# Altium footprint library Miscellaneous Devices LC.PcbLib: 559 footprints (part 11 of 35)
Each footprint in its own frame and in the unit in brackets; x right, y up, seen from the top. Pads: shape width x height; smd on the part's side, far side on the other; paste and mask are expansions set on the pad; w line width, h text height; cw(c..) or ccw(c..) is an arc to the next point about the centre after c.
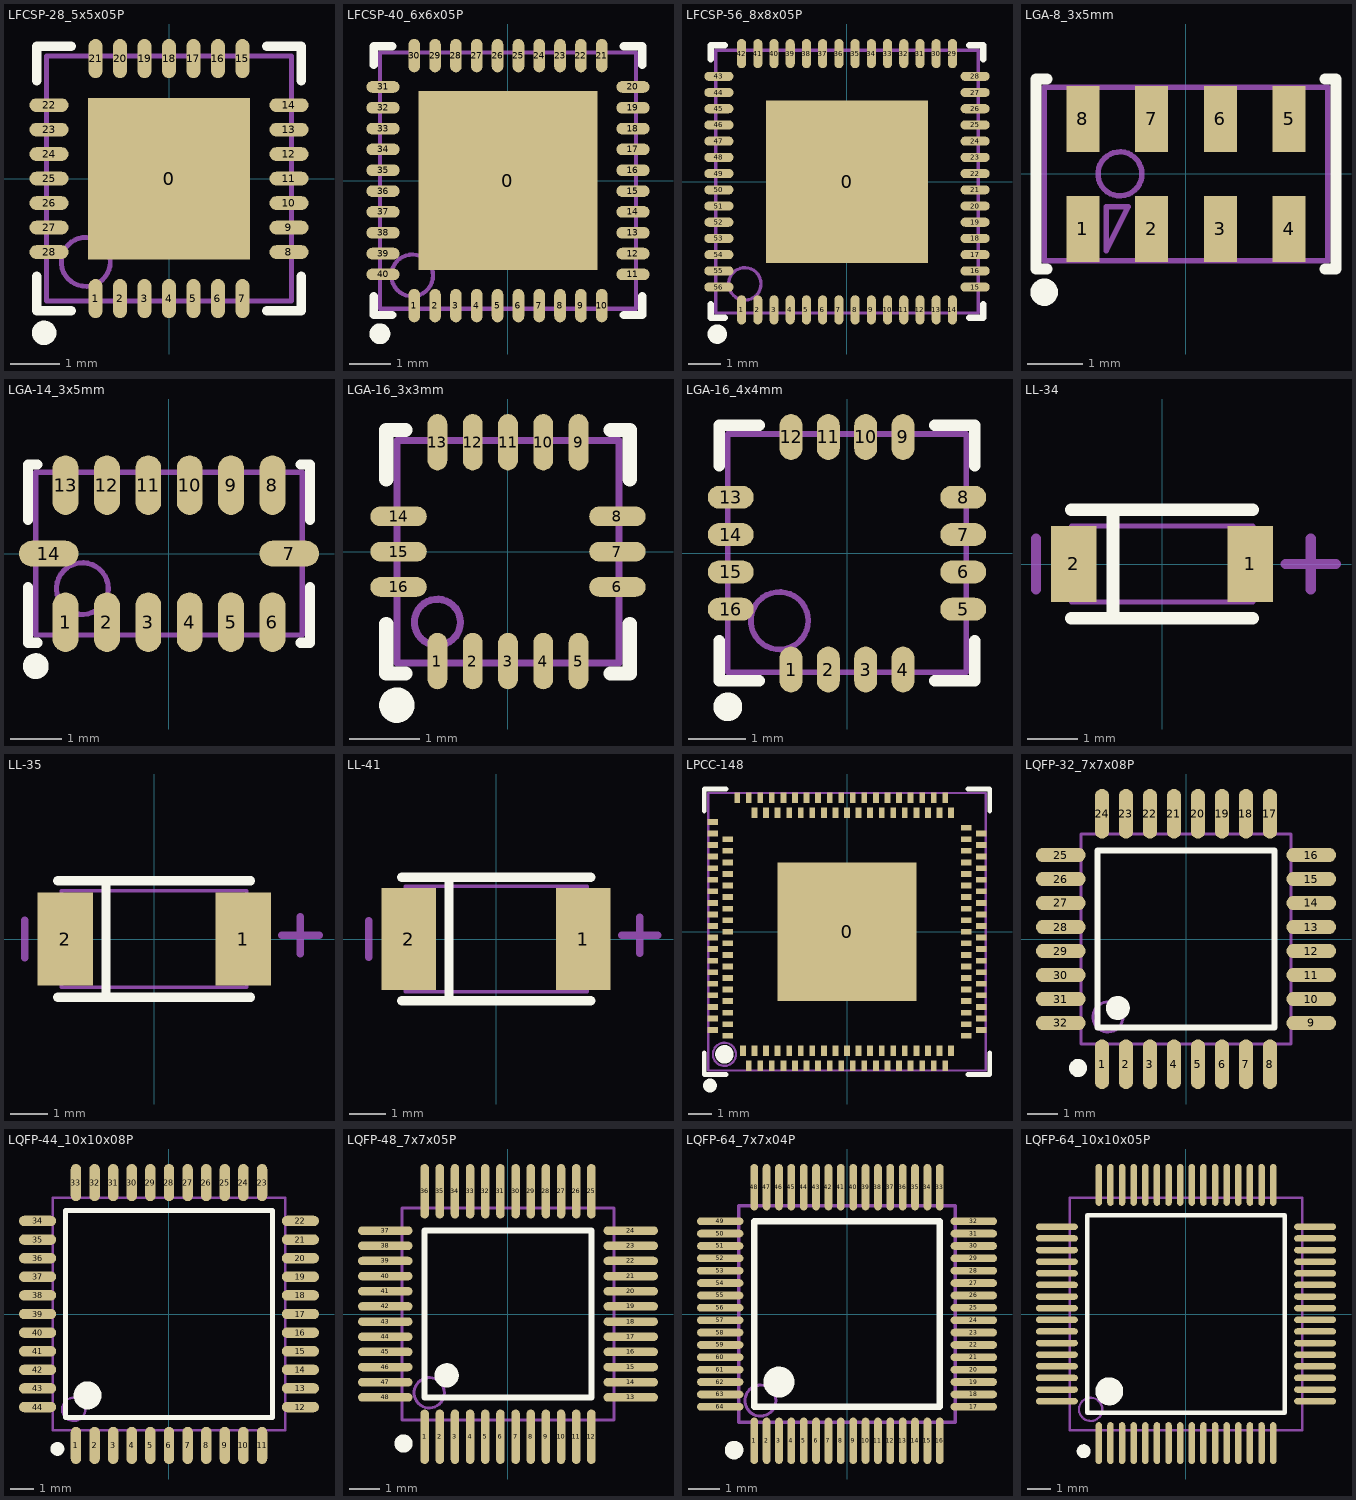
[diagram p10: the footprints below, top view; thin cyan lines are the x and y axes]

## LFCSP-28_5x5x05P [mm]
pads (29):
  rect 3.3x3.3 smd mask+0.051: 0(0,0)
  oval 0.28x0.8 smd mask+0.051: 1(-1.5,-2.45) 2(-1,-2.45) 3(-0.5,-2.45) 4(0,-2.45) 5(0.5,-2.45) 6(1,-2.45) 7(1.5,-2.45) 15(1.5,2.45) 16(1,2.45) 17(0.5,2.45) 18(0,2.45) 19(-0.5,2.45) 20(-1,2.45) 21(-1.5,2.45)
  oval 0.8x0.28 smd mask+0.051: 8(2.45,-1.5) 9(2.45,-1) 10(2.45,-0.5) 11(2.45,0) 12(2.45,0.5) 13(2.45,1) 14(2.45,1.5) 22(-2.45,1.5) 23(-2.45,1) 24(-2.45,0.5) 25(-2.45,0) 26(-2.45,-0.5) 27(-2.45,-1) 28(-2.45,-1.5)
Top Overlay:
  circle w0.25: c-2.55,-3.15 r0.125
  lines w0.2: -2.7,-2 -2.7,-2.7 -2,-2.7 ; -2.7,2 -2.7,2.7 -2,2.7 ; 2,-2.7 2.7,-2.7 2.7,-2 ; 2,2.7 2.7,2.7 2.7,2
Mechanical 13:
  circle w0.1: c-1.7,-1.7 r0.5
  lines w0.1: -2.5,-2.5 2.5,-2.5 2.5,2.5 -2.5,2.5 -2.5,-2.5

## LFCSP-40_6x6x05P [mm]
pads (41):
  rect 4.3x4.3 smd mask+0.051: 0(0,0)
  oval 0.28x0.8 smd mask+0.051: 1(-2.25,-3) 2(-1.75,-3) 3(-1.25,-3) 4(-0.75,-3) 5(-0.25,-3) 6(0.25,-3) 7(0.75,-3) 8(1.25,-3) 9(1.75,-3) 10(2.25,-3) 21(2.25,3) 22(1.75,3) 23(1.25,3) 24(0.75,3) 25(0.25,3) 26(-0.25,3) 27(-0.75,3) 28(-1.25,3) 29(-1.75,3) 30(-2.25,3)
  oval 0.8x0.28 smd mask+0.051: 11(3,-2.25) 12(3,-1.75) 13(3,-1.25) 14(3,-0.75) 15(3,-0.25) 16(3,0.25) 17(3,0.75) 18(3,1.25) 19(3,1.75) 20(3,2.25) 31(-3,2.25) 32(-3,1.75) 33(-3,1.25) 34(-3,0.75) 35(-3,0.25) 36(-3,-0.25) 37(-3,-0.75) 38(-3,-1.25) 39(-3,-1.75) 40(-3,-2.25)
Top Overlay:
  circle w0.25: c-3.075,-3.675 r0.125
  lines w0.2: -3.225,-2.775 -3.225,-3.225 -2.775,-3.225 ; -3.225,2.775 -3.225,3.225 -2.775,3.225 ; 2.775,-3.225 3.225,-3.225 3.225,-2.775 ; 2.775,3.225 3.225,3.225 3.225,2.775
Mechanical 13:
  circle w0.1: c-2.3,-2.275 r0.5
  lines w0.1: -3.075,-3.075 -3.075,3.075 3.075,3.075 3.075,-3.075 -3.075,-3.075

## LFCSP-56_8x8x05P [mm]
pads (57):
  rect 5x5 smd mask+0.051: 0(0,0)
  oval 0.28x0.9 smd mask+0.051: 1(-3.25,-3.95) 2(-2.75,-3.95) 3(-2.25,-3.95) 4(-1.75,-3.95) 5(-1.25,-3.95) 6(-0.75,-3.95) 7(-0.25,-3.95) 8(0.25,-3.95) 9(0.75,-3.95) 10(1.25,-3.95) 11(1.75,-3.95) 12(2.25,-3.95) 13(2.75,-3.95) 14(3.25,-3.95) 29(3.25,3.95) 30(2.75,3.95) 31(2.25,3.95) 32(1.75,3.95) 33(1.25,3.95) 34(0.75,3.95) 35(0.25,3.95) 36(-0.25,3.95) 37(-0.75,3.95) 38(-1.25,3.95) 39(-1.75,3.95) 40(-2.25,3.95) 41(-2.75,3.95) 42(-3.25,3.95)
  oval 0.9x0.28 smd mask+0.051: 15(3.95,-3.25) 16(3.95,-2.75) 17(3.95,-2.25) 18(3.95,-1.75) 19(3.95,-1.25) 20(3.95,-0.75) 21(3.95,-0.25) 22(3.95,0.25) 23(3.95,0.75) 24(3.95,1.25) 25(3.95,1.75) 26(3.95,2.25) 27(3.95,2.75) 28(3.95,3.25) 43(-3.95,3.25) 44(-3.95,2.75) 45(-3.95,2.25) 46(-3.95,1.75) 47(-3.95,1.25) 48(-3.95,0.75) 49(-3.95,0.25) 50(-3.95,-0.25) 51(-3.95,-0.75) 52(-3.95,-1.25) 53(-3.95,-1.75) 54(-3.95,-2.25) 55(-3.95,-2.75) 56(-3.95,-3.25)
Top Overlay:
  circle w0.3: c-4,-4.7 r0.15
  lines w0.2: -4.2,-3.775 -4.2,-4.2 -3.775,-4.2 ; -4.2,3.775 -4.2,4.2 -3.775,4.2 ; 3.775,-4.2 4.2,-4.2 4.2,-3.775 ; 3.775,4.2 4.2,4.2 4.2,3.775
Mechanical 13:
  circle w0.1: c-3.15,-3.15 r0.5
  lines w0.1: -4.05,-4.05 4.05,-4.05 4.05,4.05 -4.05,4.05 -4.05,-4.05

## LGA-8_3x5mm [mm]
pads (8):
  rect 0.6x1.2 smd: 1(-1.875,-1) 2(-0.625,-1) 3(0.625,-1) 4(1.875,-1) 5(1.875,1) 6(0.625,1) 7(-0.625,1) 8(-1.875,1)
Top Overlay:
  circle w0.25: c-2.575,-2.15 r0.125
  lines w0.2: -2.525,-1.725 -2.725,-1.725 -2.725,1.725 -2.525,1.725 ; 2.525,-1.725 2.725,-1.725 2.725,1.725 2.525,1.725
Mechanical 13:
  circle w0.1: c-1.2,0 r0.4
  lines w0.1: -2.575,-1.575 2.575,-1.575 2.575,1.575 -2.575,1.575 -2.575,-1.575 ; -1.45,-1.4 -1.45,-0.6 -1.05,-0.6 -1.45,-1.4

## LGA-14_3x5mm [mm]
pads (14):
  oval 0.5x1.15 smd mask+0.051: 1(-2,-1.325) 2(-1.2,-1.325) 3(-0.4,-1.325) 4(0.4,-1.325) 5(1.2,-1.325) 6(2,-1.325) 8(2,1.325) 9(1.2,1.325) 10(0.4,1.325) 11(-0.4,1.325) 12(-1.2,1.325) 13(-2,1.325)
  oval 1.15x0.5 smd mask+0.051: 7(2.325,0) 14(-2.325,0)
Top Overlay:
  circle w0.25: c-2.575,-2.175 r0.125
  lines w0.2: -2.725,-0.65 -2.725,-1.725 -2.55,-1.725 ; -2.725,0.65 -2.725,1.725 -2.55,1.725 ; 2.55,-1.725 2.725,-1.725 2.725,-0.65 ; 2.55,1.725 2.725,1.725 2.725,0.65
Mechanical 13:
  circle w0.1: c-1.675,-0.675 r0.5
  lines w0.1: -2.575,-1.575 -2.575,1.575 2.575,1.575 2.575,-1.575 -2.575,-1.575

## LGA-16_3x3mm [mm]
pads (16):
  oval 0.28x0.8 smd mask+0.051: 1(-1,-1.55) 2(-0.5,-1.55) 3(0,-1.55) 4(0.5,-1.55) 5(1,-1.55) 9(1,1.55) 10(0.5,1.55) 11(0,1.55) 12(-0.5,1.55) 13(-1,1.55)
  oval 0.8x0.28 smd mask+0.051: 6(1.55,-0.5) 7(1.55,0) 8(1.55,0.5) 14(-1.55,0.5) 15(-1.55,0) 16(-1.55,-0.5)
Top Overlay:
  circle w0.25: c-1.575,-2.175 r0.125
  lines w0.2: -1.725,-1.025 -1.725,-1.725 -1.45,-1.725 ; -1.725,1.025 -1.725,1.725 -1.45,1.725 ; 1.45,-1.725 1.725,-1.725 1.725,-1.025 ; 1.45,1.725 1.725,1.725 1.725,1.025
Mechanical 13:
  circle w0.1: c-1,-1 r0.326
  lines w0.1: -1.575,-1.575 1.575,-1.575 1.575,1.575 -1.575,1.575 -1.575,-1.575

## LGA-16_4x4mm [mm]
pads (16):
  oval 0.4x0.8 smd mask+0.051: 1(-0.975,-2.025) 2(-0.325,-2.025) 3(0.325,-2.025) 4(0.975,-2.025) 9(0.975,2.025) 10(0.325,2.025) 11(-0.325,2.025) 12(-0.975,2.025)
  oval 0.8x0.4 smd mask+0.051: 5(2.025,-0.975) 6(2.025,-0.325) 7(2.025,0.325) 8(2.025,0.975) 13(-2.025,0.975) 14(-2.025,0.325) 15(-2.025,-0.325) 16(-2.025,-0.975)
Top Overlay:
  circle w0.25: c-2.075,-2.675 r0.125
  lines w0.2: -2.225,-1.525 -2.225,-2.225 -1.525,-2.225 ; -2.225,1.525 -2.225,2.225 -1.525,2.225 ; 1.525,-2.225 2.225,-2.225 2.225,-1.525 ; 1.525,2.225 2.225,2.225 2.225,1.525
Mechanical 13:
  circle w0.1: c-1.175,-1.175 r0.5
  lines w0.1: -2.075,-2.075 -2.075,2.075 2.075,2.075 2.075,-2.075 -2.075,-2.075

## LL-34 [mm]
pads (2):
  rect 0.9x1.5 smd: 1(1.75,0) 2(-1.75,0)
Top Overlay:
  lines w0.254: -1.8,-1.075 1.8,-1.075 ; -1.8,1.075 1.8,1.075 ; -0.975,-1.075 -0.975,1.075
Mechanical 13:
  lines w0.1: -1.8,-0.75 1.8,-0.75 1.8,0.75 -1.8,0.75 -1.8,-0.75
Mechanical 15:
  lines w0.203: -2.5,-0.5 -2.5,0.5 ; 2.45,0 3.45,0 ; 2.95,-0.5 2.95,0.5

## LL-35 [mm]
pads (2):
  rect 1.5x2.5 smd: 1(2.4,0) 2(-2.4,0)
Top Overlay:
  lines w0.254: -2.6,-1.575 2.6,-1.575 ; -2.6,1.575 2.6,1.575 ; -1.3,-1.575 -1.3,1.575
Mechanical 13:
  lines w0.1: -2.5,-1.3 -2.5,1.3 2.5,1.3 2.5,-1.3 -2.5,-1.3
Mechanical 15:
  lines w0.203: -3.5,-0.5 -3.5,0.5 ; 3.45,0.1 4.45,0.1 ; 3.95,-0.4 3.95,0.6

## LL-41 [mm]
pads (2):
  rect 1.5x2.8 smd: 1(2.4,0) 2(-2.4,0)
Top Overlay:
  lines w0.254: -2.6,-1.7 2.6,-1.7 ; -2.6,1.7 2.6,1.7 ; -1.3,-1.7 -1.3,1.7
Mechanical 13:
  lines w0.1: -2.5,-1.45 -2.5,1.45 2.5,1.45 2.5,-1.45 -2.5,-1.45
Mechanical 15:
  lines w0.203: -3.5,-0.5 -3.5,0.5 ; 3.45,0.1 4.45,0.1 ; 3.95,-0.4 3.95,0.6

## LPCC-148 [mm]
pads (149):
  rect 6x6 smd: 0(0,0)
  rect 0.25x0.45 smd mask+0.051: A3(-4.25,-5.8) A4(-3.75,-5.8) A5(-3.25,-5.8) A6(-2.75,-5.8) A7(-2.25,-5.8) A8(-1.75,-5.8) A9(-1.25,-5.8) A10(-0.75,-5.8) A11(-0.25,-5.8) A12(0.25,-5.8) A13(0.75,-5.8) A14(1.25,-5.8) A15(1.75,-5.8) A16(2.25,-5.8) A17(2.75,-5.8) A18(3.25,-5.8) A19(3.75,-5.8) A20(4.25,-5.8) A47(4.25,5.8) A48(3.75,5.8) A49(3.25,5.8) A50(2.75,5.8) A51(2.25,5.8) A52(1.75,5.8) A53(1.25,5.8) A54(0.75,5.8) A55(0.25,5.8) A56(-0.25,5.8) A57(-0.75,5.8) A58(-1.25,5.8) A59(-1.75,5.8) A60(-2.25,5.8) A61(-2.75,5.8) A62(-3.25,5.8) A63(-3.75,5.8) A64(-4.25,5.8) A65(-4.75,5.8) B1(-4.5,-5.15) B2(-4,-5.15) B3(-3.5,-5.15) B4(-3,-5.15) B5(-2.5,-5.15) B6(-2,-5.15) B7(-1.5,-5.15) B8(-1,-5.15) B9(-0.5,-5.15) B10(0,-5.15) B11(0.5,-5.15) B12(1,-5.15) B13(1.5,-5.15) B14(2,-5.15) B15(2.5,-5.15) B16(3,-5.15) B17(3.5,-5.15) B18(4,-5.15) B19(4.5,-5.15) B39(4.5,5.15) B40(4,5.15) B41(3.5,5.15) B42(3,5.15) B43(2.5,5.15) B44(2,5.15) B45(1.5,5.15) B46(1,5.15) B47(0.5,5.15) B48(0,5.15) B49(-0.5,5.15) B50(-1,5.15) B51(-1.5,5.15) B52(-2,5.15) B53(-2.5,5.15) B54(-3,5.15) B55(-3.5,5.15) B56(-4,5.15)
  rect 0.45x0.25 smd mask+0.051: A25(5.8,-4.25) A26(5.8,-3.75) A27(5.8,-3.25) A28(5.8,-2.75) A29(5.8,-2.25) A30(5.8,-1.75) A31(5.8,-1.25) A32(5.8,-0.75) A33(5.8,-0.25) A34(5.8,0.25) A35(5.8,0.75) A36(5.8,1.25) A37(5.8,1.75) A38(5.8,2.25) A39(5.8,2.75) A40(5.8,3.25) A41(5.8,3.75) A42(5.8,4.25) A68(-5.8,4.75) A69(-5.8,4.25) A70(-5.8,3.75) A71(-5.8,3.25) A72(-5.8,2.75) A73(-5.8,2.25) A74(-5.8,1.75) A75(-5.8,1.25) A76(-5.8,0.75) A77(-5.8,0.25) A78(-5.8,-0.25) A79(-5.8,-0.75) A80(-5.8,-1.25) A81(-5.8,-1.75) A82(-5.8,-2.25) A83(-5.8,-2.75) A84(-5.8,-3.25) A85(-5.8,-3.75) A86(-5.8,-4.25) B20(5.15,-4.5) B21(5.15,-4) B22(5.15,-3.5) B23(5.15,-3) B24(5.15,-2.5) B25(5.15,-2) B26(5.15,-1.5) B27(5.15,-1) B28(5.15,-0.5) B29(5.15,0) B30(5.15,0.5) B31(5.15,1) B32(5.15,1.5) B33(5.15,2) B34(5.15,2.5) B35(5.15,3) B36(5.15,3.5) B37(5.15,4) B38(5.15,4.5) B59(-5.15,4) B60(-5.15,3.5) B61(-5.15,3) B62(-5.15,2.5) B63(-5.15,2) B64(-5.15,1.5) B65(-5.15,1) B66(-5.15,0.5) B67(-5.15,0) B68(-5.15,-0.5) B69(-5.15,-1) B70(-5.15,-1.5) B71(-5.15,-2) B72(-5.15,-2.5) B73(-5.15,-3) B74(-5.15,-3.5) B75(-5.15,-4) B76(-5.15,-4.5)
Top Overlay:
  circle w0.3: c-5.925,-6.65 r0.15
  circle w0.4: c-5.3,-5.3 r0.2
  lines w0.2: -6.175,-5.225 -6.175,-6.175 -5.225,-6.175 ; -6.175,5.225 -6.175,6.175 -5.225,6.175 ; 5.225,-6.175 6.175,-6.175 6.175,-5.225 ; 5.225,6.175 6.175,6.175 6.175,5.225
Mechanical 13:
  circle w0.1: c-5.3,-5.3 r0.5
  lines w0.1: -6,-6 -6,6 6,6 6,-6 -6,-6

## LQFP-32_7x7x08P [mm]
pads (32):
  oval 0.48x1.65 smd: 1(-2.8,-4.175) 2(-2,-4.175) 3(-1.2,-4.175) 4(-0.4,-4.175) 5(0.4,-4.175) 6(1.2,-4.175) 7(2,-4.175) 8(2.8,-4.175) 17(2.8,4.175) 18(2,4.175) 19(1.2,4.175) 20(0.4,4.175) 21(-0.4,4.175) 22(-1.2,4.175) 23(-2,4.175) 24(-2.8,4.175)
  oval 1.65x0.48 smd: 9(4.175,-2.8) 10(4.175,-2) 11(4.175,-1.2) 12(4.175,-0.4) 13(4.175,0.4) 14(4.175,1.2) 15(4.175,2) 16(4.175,2.8) 25(-4.175,2.8) 26(-4.175,2) 27(-4.175,1.2) 28(-4.175,0.4) 29(-4.175,-0.4) 30(-4.175,-1.2) 31(-4.175,-2) 32(-4.175,-2.8)
Top Overlay:
  circle w0.4: c-2.275,-2.3 r0.2
  circle w0.3: c-3.6,-4.3 r0.15
  lines w0.2: -2.95,-2.95 -2.95,2.95 2.95,2.95 2.95,-2.95 -2.95,-2.95
Mechanical 13:
  circle w0.1: c-2.6,-2.6 r0.5
  lines w0.1: -3.5,-3.5 -3.5,3.5 3.5,3.5 3.5,-3.5 -3.5,-3.5

## LQFP-44_10x10x08P [mm]
pads (44):
  oval 0.45x1.6 smd: 1(-4,-5.65) 2(-3.2,-5.65) 3(-2.4,-5.65) 4(-1.6,-5.65) 5(-0.8,-5.65) 6(0,-5.65) 7(0.8,-5.65) 8(1.6,-5.65) 9(2.4,-5.65) 10(3.2,-5.65) 11(4,-5.65) 23(4,5.65) 24(3.2,5.65) 25(2.4,5.65) 26(1.6,5.65) 27(0.8,5.65) 28(0,5.65) 29(-0.8,5.65) 30(-1.6,5.65) 31(-2.4,5.65) 32(-3.2,5.65) 33(-4,5.65)
  oval 1.6x0.45 smd: 12(5.65,-4) 13(5.65,-3.2) 14(5.65,-2.4) 15(5.65,-1.6) 16(5.65,-0.8) 17(5.65,0) 18(5.65,0.8) 19(5.65,1.6) 20(5.65,2.4) 21(5.65,3.2) 22(5.65,4) 34(-5.65,4) 35(-5.65,3.2) 36(-5.65,2.4) 37(-5.65,1.6) 38(-5.65,0.8) 39(-5.65,0) 40(-5.65,-0.8) 41(-5.65,-1.6) 42(-5.65,-2.4) 43(-5.65,-3.2) 44(-5.65,-4)
Top Overlay:
  circle w0.6: c-3.5,-3.5 r0.3
  circle w0.3: c-4.8,-5.8 r0.15
  lines w0.2: -4.45,-4.45 4.45,-4.45 4.45,4.45 -4.45,4.45 -4.45,-4.45
Mechanical 13:
  circle w0.1: c-4.1,-4.1 r0.5
  lines w0.1: -5,-5 5,-5 5,5 -5,5 -5,-5

## LQFP-48_7x7x05P [mm]
pads (48):
  oval 0.28x1.8 smd mask+0.051: 1(-2.75,-4.05) 2(-2.25,-4.05) 3(-1.75,-4.05) 4(-1.25,-4.05) 5(-0.75,-4.05) 6(-0.25,-4.05) 7(0.25,-4.05) 8(0.75,-4.05) 9(1.25,-4.05) 10(1.75,-4.05) 11(2.25,-4.05) 12(2.75,-4.05) 25(2.75,4.05) 26(2.25,4.05) 27(1.75,4.05) 28(1.25,4.05) 29(0.75,4.05) 30(0.25,4.05) 31(-0.25,4.05) 32(-0.75,4.05) 33(-1.25,4.05) 34(-1.75,4.05) 35(-2.25,4.05) 36(-2.75,4.05)
  oval 1.8x0.28 smd mask+0.051: 13(4.05,-2.75) 14(4.05,-2.25) 15(4.05,-1.75) 16(4.05,-1.25) 17(4.05,-0.75) 18(4.05,-0.25) 19(4.05,0.25) 20(4.05,0.75) 21(4.05,1.25) 22(4.05,1.75) 23(4.05,2.25) 24(4.05,2.75) 37(-4.05,2.75) 38(-4.05,2.25) 39(-4.05,1.75) 40(-4.05,1.25) 41(-4.05,0.75) 42(-4.05,0.25) 43(-4.05,-0.25) 44(-4.05,-0.75) 45(-4.05,-1.25) 46(-4.05,-1.75) 47(-4.05,-2.25) 48(-4.05,-2.75)
Top Overlay:
  circle w0.3: c-3.45,-4.275 r0.15
  circle w0.4: c-2.025,-2.025 r0.2
  lines w0.2: -2.75,-2.75 2.75,-2.75 2.75,2.75 -2.75,2.75 -2.75,-2.75
Mechanical 13:
  circle w0.1: c-2.6,-2.6 r0.5
  lines w0.1: -3.5,-3.5 3.5,-3.5 3.5,3.5 -3.5,3.5 -3.5,-3.5
3D body "QFP48P50_900X900X160L60X19.STEP": height 1.6, standoff 0, extent -4.5,-4.5 4.5,4.5

## LQFP-64_7x7x04P [mm]
pads (64):
  oval 0.25x1.5 smd mask+0.051: 1(-3,-4.1) 2(-2.6,-4.1) 3(-2.2,-4.1) 4(-1.8,-4.1) 5(-1.4,-4.1) 6(-1,-4.1) 7(-0.6,-4.1) 8(-0.2,-4.1) 9(0.2,-4.1) 10(0.6,-4.1) 11(1,-4.1) 12(1.4,-4.1) 13(1.8,-4.1) 14(2.2,-4.1) 15(2.6,-4.1) 16(3,-4.1) 33(3,4.1) 34(2.6,4.1) 35(2.2,4.1) 36(1.8,4.1) 37(1.4,4.1) 38(1,4.1) 39(0.6,4.1) 40(0.2,4.1) 41(-0.2,4.1) 42(-0.6,4.1) 43(-1,4.1) 44(-1.4,4.1) 45(-1.8,4.1) 46(-2.2,4.1) 47(-2.6,4.1) 48(-3,4.1)
  oval 1.5x0.25 smd mask+0.051: 17(4.1,-3) 18(4.1,-2.6) 19(4.1,-2.2) 20(4.1,-1.8) 21(4.1,-1.4) 22(4.1,-1) 23(4.1,-0.6) 24(4.1,-0.2) 25(4.1,0.2) 26(4.1,0.6) 27(4.1,1) 28(4.1,1.4) 29(4.1,1.8) 30(4.1,2.2) 31(4.1,2.6) 32(4.1,3) 49(-4.1,3) 50(-4.1,2.6) 51(-4.1,2.2) 52(-4.1,1.8) 53(-4.1,1.4) 54(-4.1,1) 55(-4.1,0.6) 56(-4.1,0.2) 57(-4.1,-0.2) 58(-4.1,-0.6) 59(-4.1,-1) 60(-4.1,-1.4) 61(-4.1,-1.8) 62(-4.1,-2.2) 63(-4.1,-2.6) 64(-4.1,-3)
Top Overlay:
  circle w0.3: c-3.65,-4.4 r0.15
  circle w0.5: c-2.2,-2.2 r0.25
  lines w0.2: -3,-3 -3,3 3,3 3,-3 -3,-3
Mechanical 13:
  circle w0.1: c-2.8,-2.8 r0.5
  lines w0.1: -3.5,-3.5 -3.5,3.5 3.5,3.5 3.5,-3.5 -3.5,-3.5

## LQFP-64_10x10x05P [mm]
pads (64):
  oval 0.28x1.8 smd mask+0.051: 1(-3.75,-5.55) 2(-3.25,-5.55) 3(-2.75,-5.55) 4(-2.25,-5.55) 5(-1.75,-5.55) 6(-1.25,-5.55) 7(-0.75,-5.55) 8(-0.25,-5.55) 9(0.25,-5.55) 10(0.75,-5.55) 11(1.25,-5.55) 12(1.75,-5.55) 13(2.25,-5.55) 14(2.75,-5.55) 15(3.25,-5.55) 16(3.75,-5.55) 33(3.75,5.55) 34(3.25,5.55) 35(2.75,5.55) 36(2.25,5.55) 37(1.75,5.55) 38(1.25,5.55) 39(0.75,5.55) 40(0.25,5.55) 41(-0.25,5.55) 42(-0.75,5.55) 43(-1.25,5.55) 44(-1.75,5.55) 45(-2.25,5.55) 46(-2.75,5.55) 47(-3.25,5.55) 48(-3.75,5.55)
  oval 1.8x0.28 smd mask+0.051: 17(5.55,-3.75) 18(5.55,-3.25) 19(5.55,-2.75) 20(5.55,-2.25) 21(5.55,-1.75) 22(5.55,-1.25) 23(5.55,-0.75) 24(5.55,-0.25) 25(5.55,0.25) 26(5.55,0.75) 27(5.55,1.25) 28(5.55,1.75) 29(5.55,2.25) 30(5.55,2.75) 31(5.55,3.25) 32(5.55,3.75) 49(-5.55,3.75) 50(-5.55,3.25) 51(-5.55,2.75) 52(-5.55,2.25) 53(-5.55,1.75) 54(-5.55,1.25) 55(-5.55,0.75) 56(-5.55,0.25) 57(-5.55,-0.25) 58(-5.55,-0.75) 59(-5.55,-1.25) 60(-5.55,-1.75) 61(-5.55,-2.25) 62(-5.55,-2.75) 63(-5.55,-3.25) 64(-5.55,-3.75)
Top Overlay:
  circle w0.6: c-3.3,-3.325 r0.3
  circle w0.3: c-4.4,-5.9 r0.15
  lines w0.2: -4.25,-4.25 -4.25,4.25 4.25,4.25 4.25,-4.25 -4.25,-4.25
Mechanical 13:
  circle w0.1: c-4.1,-4.1 r0.5
  lines w0.1: -5,-5 -5,5 5,5 5,-5 -5,-5
3D body "ST LQFP-64-10x10.STEP": height 1.6, standoff 0, extent -6.01,-6.01 6.011,6.011